# Altium footprint library Micro-USB.PcbLib: 1 footprints
Each footprint in its own frame and in the unit in brackets; x right, y up, seen from the top. Pads: shape width x height; smd on the part's side, far side on the other; paste and mask are expansions set on the pad; w line width, h text height; cw(c..) or ccw(c..) is an arc to the next point about the centre after c.
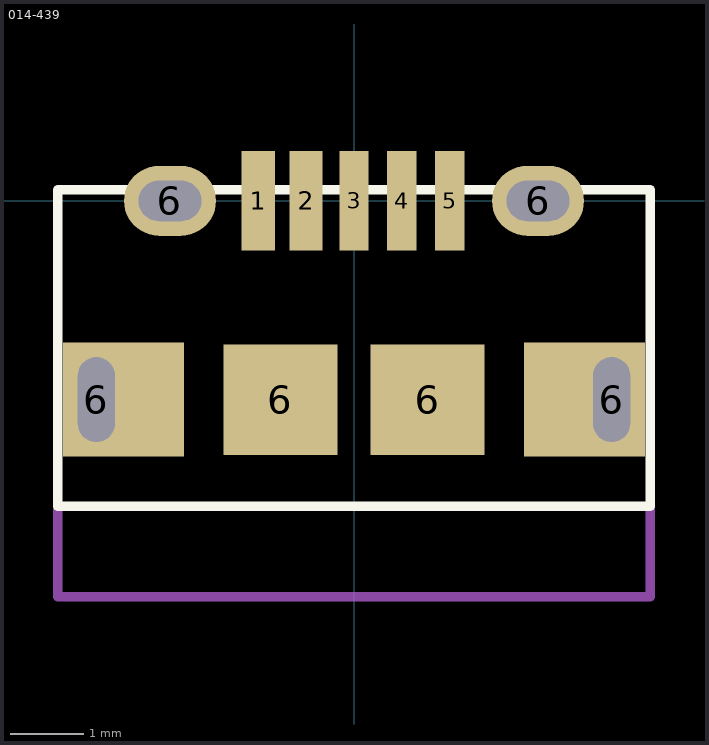
[diagram p0: the footprint, top view; thin cyan lines are the x and y axes]

## 014-439 [mm] "Micro USB B Receptacle"
height 3
pads (11):
  rect 0.45x1.35 smd mask+0.051: 1(-1.3,0) 2(-0.65,0)
  rect 0.4x1.35 smd mask+0.051: 3(0,0) 4(0.65,0) 5(1.3,0)
  rect 1.645x1.55 hole 1.15 slot 0.5 at 0 deg copper offset 0.37,0: 6(-3.5,-2.7)
  oval 1.25x0.95 hole 0.55 slot 0.85 at 0 deg: 6(-2.5,0) 6(2.5,0)
  rect 1.55x1.5 smd: 6(-1,-2.7) 6(1,-2.7)
  rect 1.645x1.55 hole 1.15 slot 0.5 at 0 deg copper offset -0.37,0: 6(3.5,-2.7)
Top Overlay:
  lines w0.127: -4.025,-4.15 -4.025,0.15 4.025,0.15 4.025,-4.15 -4.025,-4.15
Mechanical 1:
  lines w0.127: -4.025,-4.15 -4.025,-5.38 4.025,-5.38 4.025,-4.15
3D body "014-439.STEP": height 0.15, standoff -3.12, extent -4.025,-5.38 4.025,0.15